# Altium schematic symbol library AD8691AUJZ.SCHLIB: 1 symbol
Pins are listed as number, name and electrical type; pins without a type are passive.

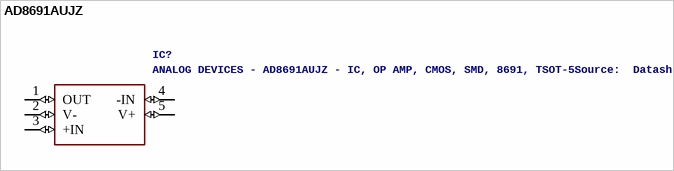
[diagram p0: symbol AD8691AUJZ]

## AD8691AUJZ
designator IC?, comment ANALOG DEVICES - AD8691AUJZ - IC, OP AMP, CMOS, SMD, 8691, TSOT-5Source:  Datasheet
GateName_1: G$1; SymbolName_1: AD8691AUJZ; LibraryName: AD8691AUJZ; DeviceSetName: AD8691AUJZ; Package: SOT95P280X100-5N; Manufacturer_Name: Analog Devices; Manufacturer_Part_Number: AD8691AUJZ; Arrow_Part_Number: AD8691AUJZ; Description: ANALOG DEVICES - AD8691AUJZ - IC, OP AMP, CMOS, SMD, 8691, TSOT-5; Height: 1mm
footprint SOT95P280X100-5N
pins: 1 OUT (io), 2 V- (io), 3 +IN (io), 4 -IN (io), 5 V+ (io)